# Altium footprint library APM32F103VET6封装库.PcbLib: 14 footprints
Each footprint in its own frame and in the unit in brackets; x right, y up, seen from the top. Pads: shape width x height; smd on the part's side, far side on the other; paste and mask are expansions set on the pad; w line width, h text height; cw(c..) or ccw(c..) is an arc to the next point about the centre after c.
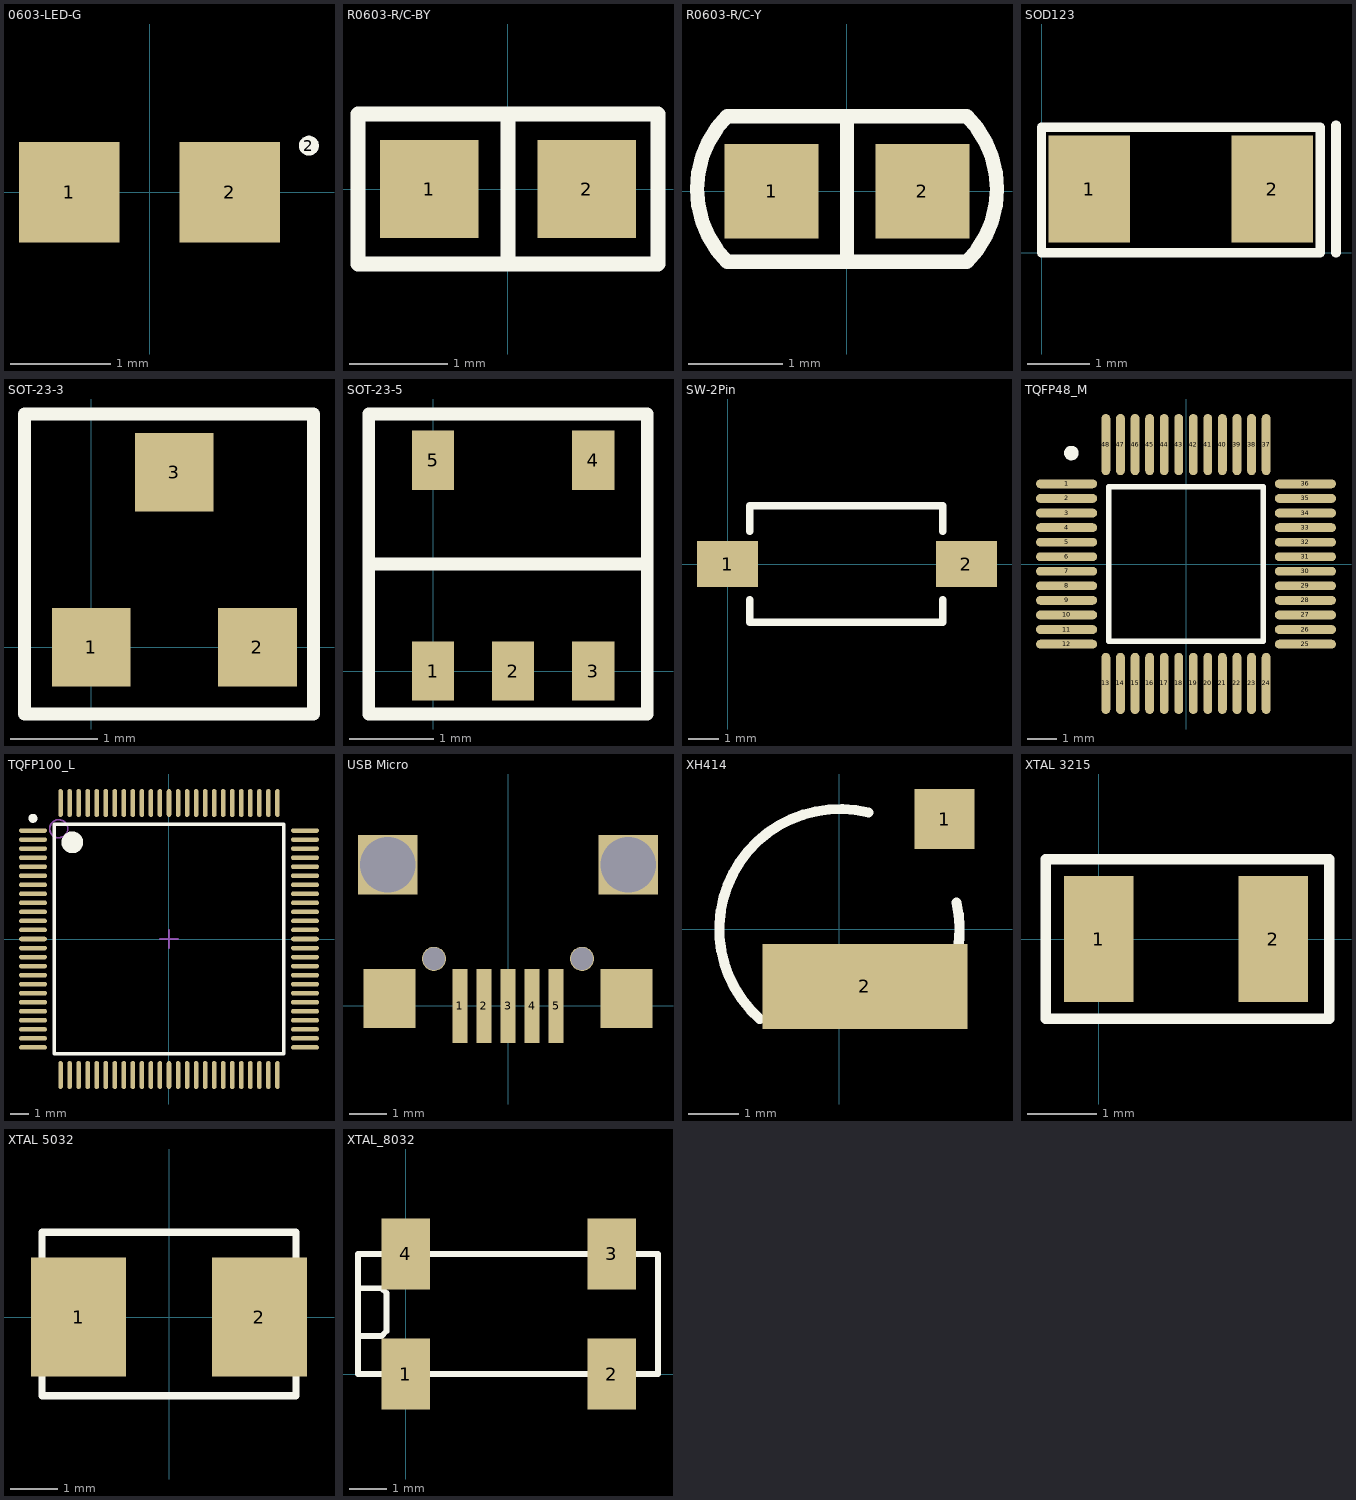
[diagram p0: the footprints below, top view; thin cyan lines are the x and y axes]

## 0603-LED-G [mm]
pads (3):
  rect 1x1 smd: 1(-0.8,0) 2(0.8,0)
  round 0.2 on Top Overlay mask+0: 2(1.587,0.463)
3D body "LED SMD0603_G.STEP": height 0.68, standoff 0, extent -0.8,-0.395 0.85,0.33
3D body: height 0.38, standoff 0, extent 0.633,0.12 0.832,0.32

## R0603-R/C-BY [mm]
pads (2):
  rect 1x1 smd: 1(-0.8,0) 2(0.8,0)
Top Overlay:
  lines w0.152: 0,-0.762 0,0.762 ; -1.524,-0.762 -1.524,0.762 1.524,0.762 1.524,-0.762 -1.524,-0.762
3D body "0603-BY.STEP": height 0.79, standoff 0, extent -0.975,-0.356 1.026,0.432

## R0603-R/C-Y [mm]
pads (2):
  rect 1x1 smd: 1(-0.8,0) 2(0.8,0)
Top Overlay:
  lines w0.152: 0,-0.748 0,0.798 ; -1.27,-0.748 cw(c-0.497,0.025) -1.27,0.798 1.27,0.798 cw(c0.497,0.025) 1.27,-0.748 -1.27,-0.748
3D body "0603-y.STEP": height 0.79, standoff 0, extent -0.975,-0.356 1.026,0.432

## SOD123 [mm]
height 2
pads (2):
  rect 1.3x1.7 smd: 1(0.762,1.016) 2(3.683,1.016)
Top Overlay:
  lines w0.15: 0,0 0,2 4.445,2 4.445,0 0,0
  lines w0.152: 4.699,0 4.699,2.032
3D body "User Library-SOD-123.STEP": height 1.25, standoff 0, extent 0.31,0.216 4.008,1.816

## SOT-23-3 [mm]
pads (3):
  rect 0.9x0.9 smd: 1(0,0) 2(1.9,0) 3(0.95,2)
Top Overlay:
  lines w0.152: -0.762,-0.762 -0.762,2.667 2.54,2.667 2.54,-0.762 -0.762,-0.762
3D body "CircuitWorks-SOT-23.step": height 1.05, standoff -0.05, extent -0.611,-0.234 2.389,2.266

## SOT-23-5 [mm]
height 1.45
pads (5):
  rect 0.5x0.7 smd: 1(0,0) 2(0.95,0) 3(1.9,0) 4(1.9,2.5) 5(0,2.5)
Top Overlay:
  lines w0.152: -0.762,1.27 2.54,1.27 ; -0.762,-0.508 -0.762,3.048 2.54,3.048 2.54,-0.508 -0.762,-0.508
3D body "CircuitWorks-SOT-23-5.step": height 1.05, standoff -0.05, extent -0.611,0.02 2.389,2.52

## SW-2Pin [mm]
pads (2):
  rect 2x1.5 smd: 1(0,0) 2(7.8,0)
Top Overlay:
  lines w0.254: 0.725,-1.168 0.725,-1.9 7.025,-1.9 7.025,-1.168 ; 0.725,1.067 0.725,1.9 7.025,1.9 7.025,1.067
3D body "SMD按键.STEP": height 2.5, standoff 0, extent -0.059,-1.945 7.831,1.905

## TQFP48_M [mm] "48-Pin Thin Quad Flat Pack 0.5 mm Pitch, IPC Low Density"
height 1.6
pads (48):
  oval 2.1x0.3 smd: 1(-4.1,2.75) 2(-4.1,2.25) 3(-4.1,1.75) 4(-4.1,1.25) 5(-4.1,0.75) 6(-4.1,0.25) 7(-4.1,-0.25) 8(-4.1,-0.75) 9(-4.1,-1.25) 10(-4.1,-1.75) 11(-4.1,-2.25) 12(-4.1,-2.75) 25(4.1,-2.75) 26(4.1,-2.25) 27(4.1,-1.75) 28(4.1,-1.25) 29(4.1,-0.75) 30(4.1,-0.25) 31(4.1,0.25) 32(4.1,0.75) 33(4.1,1.25) 34(4.1,1.75) 35(4.1,2.25) 36(4.1,2.75)
  oval 0.3x2.1 smd: 13(-2.75,-4.1) 14(-2.25,-4.1) 15(-1.75,-4.1) 16(-1.25,-4.1) 17(-0.75,-4.1) 18(-0.25,-4.1) 19(0.25,-4.1) 20(0.75,-4.1) 21(1.25,-4.1) 22(1.75,-4.1) 23(2.25,-4.1) 24(2.75,-4.1) 37(2.75,4.1) 38(2.25,4.1) 39(1.75,4.1) 40(1.25,4.1) 41(0.75,4.1) 42(0.25,4.1) 43(-0.25,4.1) 44(-0.75,4.1) 45(-1.25,4.1) 46(-1.75,4.1) 47(-2.25,4.1) 48(-2.75,4.1)
Top Overlay:
  circle w0.25: c-3.937,3.81 r0.125
  lines w0.2: -2.65,-2.65 2.65,-2.65 2.65,2.65 -2.65,2.65 -2.65,-2.65
3D body "User Library-LQFP48_Grid_0_5.STEP": height 1.6, standoff 0, extent -4.5,-4.5 4.5,4.5

## TQFP100_L [mm] "Thin QFP, 100-Leads, Body 14x14mm, Pitch 0.5mm, IPC High Density"
height 1.6
pads (100):
  oval 1.55x0.25 smd: 1(-7.525,6) 2(-7.525,5.5) 3(-7.525,5) 4(-7.525,4.5) 5(-7.525,4) 6(-7.525,3.5) 7(-7.525,3) 8(-7.525,2.5) 9(-7.525,2) 10(-7.525,1.5) 11(-7.525,1) 12(-7.525,0.5) 13(-7.525,0) 14(-7.525,-0.5) 15(-7.525,-1) 16(-7.525,-1.5) 17(-7.525,-2) 18(-7.525,-2.5) 19(-7.525,-3) 20(-7.525,-3.5) 21(-7.525,-4) 22(-7.525,-4.5) 23(-7.525,-5) 24(-7.525,-5.5) 25(-7.525,-6) 51(7.525,-6) 52(7.525,-5.5) 53(7.525,-5) 54(7.525,-4.5) 55(7.525,-4) 56(7.525,-3.5) 57(7.525,-3) 58(7.525,-2.5) 59(7.525,-2) 60(7.525,-1.5) 61(7.525,-1) 62(7.525,-0.5) 63(7.525,0) 64(7.525,0.5) 65(7.525,1) 66(7.525,1.5) 67(7.525,2) 68(7.525,2.5) 69(7.525,3) 70(7.525,3.5) 71(7.525,4) 72(7.525,4.5) 73(7.525,5) 74(7.525,5.5) 75(7.525,6)
  oval 0.25x1.55 smd: 26(-6,-7.525) 27(-5.5,-7.525) 28(-5,-7.525) 29(-4.5,-7.525) 30(-4,-7.525) 31(-3.5,-7.525) 32(-3,-7.525) 33(-2.5,-7.525) 34(-2,-7.525) 35(-1.5,-7.525) 36(-1,-7.525) 37(-0.5,-7.525) 38(0,-7.525) 39(0.5,-7.525) 40(1,-7.525) 41(1.5,-7.525) 42(2,-7.525) 43(2.5,-7.525) 44(3,-7.525) 45(3.5,-7.525) 46(4,-7.525) 47(4.5,-7.525) 48(5,-7.525) 49(5.5,-7.525) 50(6,-7.525) 76(6,7.525) 77(5.5,7.525) 78(5,7.525) 79(4.5,7.525) 80(4,7.525) 81(3.5,7.525) 82(3,7.525) 83(2.5,7.525) 84(2,7.525) 85(1.5,7.525) 86(1,7.525) 87(0.5,7.525) 88(0,7.525) 89(-0.5,7.525) 90(-1,7.525) 91(-1.5,7.525) 92(-2,7.525) 93(-2.5,7.525) 94(-3,7.525) 95(-3.5,7.525) 96(-4,7.525) 97(-4.5,7.525) 98(-5,7.525) 99(-5.5,7.525) 100(-6,7.525)
Top Overlay:
  circle w0.6: c-5.35,5.35 r0.3
  circle w0.25: c-7.525,6.675 r0.125
  lines w0.2: -6.35,-6.35 6.35,-6.35 6.35,6.35 -6.35,6.35 -6.35,-6.35
Mechanical 13:
  circle w0.1: c-6.1,6.1 r0.5
Mechanical 15:
  lines w0.1: -0.5,0 0.5,0 ; 0,-0.5 0,0.5
3D body: height 1.6, standoff 0, extent -7,-7 7,7

## USB Micro [mm]
height 2.35
pads (11):
  rect 0.4x2 smd: 1(-1.3,0) 2(-0.65,0) 3(0,0) 4(0.65,0) 5(1.3,0)
  rect 1.6x1.6 hole 1.5: ""(-3.25,3.81) ""(3.25,3.81)
  rect 1.4x1.6 smd: ""(-3.2,0.2) ""(3.2,0.2)
  round 0.65 hole 0.6 unplated: ""(-2,1.27) ""(2,1.27)
3D body "1521869_1981584-1.stp": height 2.83, standoff -0.23, extent -4.4,0.127 4.4,5.727

## XH414 [mm]
pads (2):
  rect 1.2x1.2 smd: 1(2.1,2.2)
  rect 4.1x1.7 smd: 2(0.508,-1.143)
Top Overlay:
  lines w0.203: -1.593,-1.795 cw(c0,0) 0.581,2.329 ; 2.222,-0.907 ccw(c0,0) 2.339,0.536
3D body "User Library-XH414.STEP": height 1.6, standoff -0.01, extent -2.434,-2.286 2.688,2.835

## XTAL 3215 [mm]
pads (2):
  rect 1x1.8 smd: 1(0,0) 2(2.5,0)
Top Overlay:
  lines w0.152: -0.762,-1.143 -0.762,1.143 3.302,1.143 3.302,-1.143 -0.762,-1.143
3D body "User Library-Crystal FC-135.STEP": height 0.8, standoff 0, extent -0.33,-0.75 2.87,0.75

## XTAL 5032 [mm]
height 1.1
pads (2):
  rect 2x2.5 smd: 1(-1.9,0) 2(1.9,0)
Top Overlay:
  lines w0.152: -2.667,-1.651 -2.667,1.778 2.667,1.778 2.667,-1.651 -2.667,-1.651
3D body "User Library-5032_2.step": height 1.2, standoff -0.01, extent -2.5,-1.549 2.5,1.651

## XTAL_8032 [mm]
height 2.4
pads (4):
  rect 1.3x1.9 smd: 1(0,0) 2(5.5,0) 3(5.5,3.2) 4(0,3.2)
Top Overlay:
  lines w0.152: -1.27,1.016 -0.635,1.016 -0.508,1.143 -0.508,2.159 -0.635,2.286 -1.27,2.286 ; -1.27,0 -1.27,3.2 6.73,3.2 6.73,0 -1.27,0
3D body "User Library-EA96.step": height 1.3, standoff -0.2, extent -0.756,-0.026 6.344,3.074